# EAGLE library part PIC18F27J53 (library xess)
Microchip PIC18F27J53 Microchip PIC18F27J53
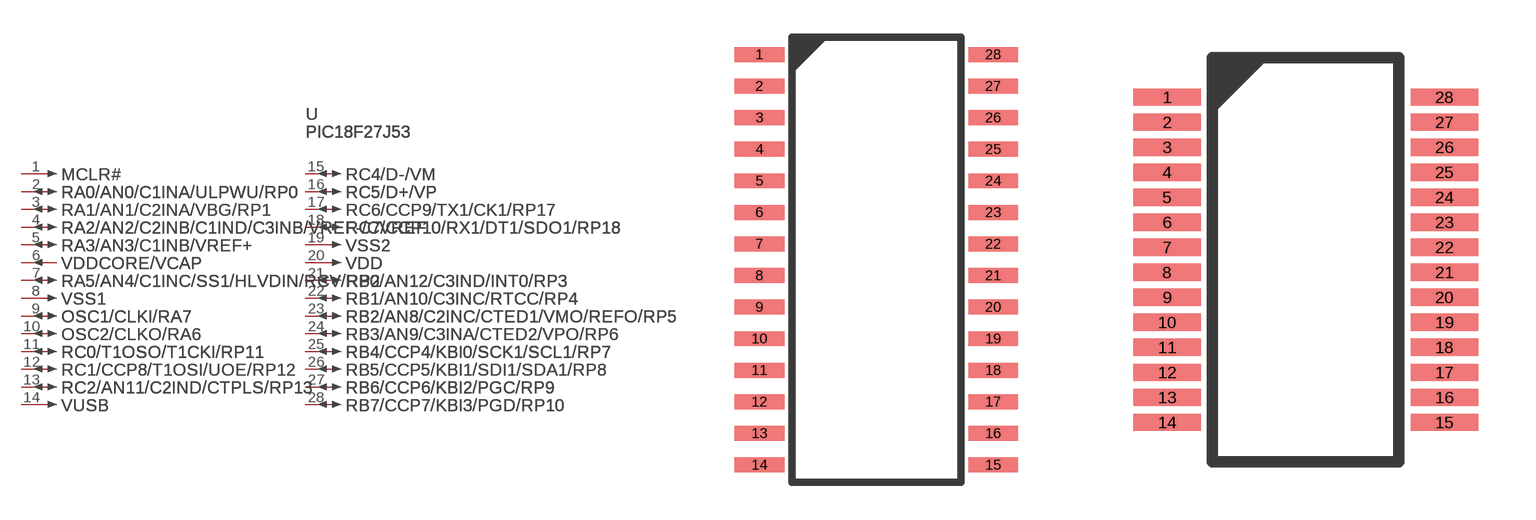
[diagram p151: symbol with the pads of MICROCHIP-28_SOIC; footprints MICROCHIP-28_SOIC, MICROCHIP-28_SSOP]

Designator prefix U; gates PART=PV_GATE MCLR#=PIN_GATE_IN RA0/AN0/C1INA/ULPWU/RP0=PIN_GATE_IO RA1/AN1/C2INA/VBG/RP1=PIN_GATE_IO RA2/AN2/C2INB/C1IND/C3INB/VREF-/CVREF=PIN_GATE_IO RA3/AN3/C1INB/VREF+=PIN_GATE_IO VDDCORE/VCAP=PIN_GATE_OUT RA5/AN4/C1INC/SS1/HLVDIN/RCV/RP2=PIN_GATE_IO VSS1=PIN_GATE_IN OSC1/CLKI/RA7=PIN_GATE_IO OSC2/CLKO/RA6=PIN_GATE_IO RC0/T1OSO/T1CKI/RP11=PIN_GATE_IO RC1/CCP8/T1OSI/UOE/RP12=PIN_GATE_IO RC2/AN11/C2IND/CTPLS/RP13=PIN_GATE_IO VUSB=PIN_GATE_IN RC4/D-/VM=PIN_GATE_IO RC5/D+/VP=PIN_GATE_IO RC6/CCP9/TX1/CK1/RP17=PIN_GATE_IO RC7/CCP10/RX1/DT1/SDO1/RP18=PIN_GATE_IO VSS2=PIN_GATE_IN VDD=PIN_GATE_IN RB0/AN12/C3IND/INT0/RP3=PIN_GATE_IO RB1/AN10/C3INC/RTCC/RP4=PIN_GATE_IO RB2/AN8/C2INC/CTED1/VMO/REFO/RP5=PIN_GATE_IO RB3/AN9/C3INA/CTED2/VPO/RP6=PIN_GATE_IO RB4/CCP4/KBI0/SCK1/SCL1/RP7=PIN_GATE_IO RB5/CCP5/KBI1/SDI1/SDA1/RP8=PIN_GATE_IO RB6/CCP6/KBI2/PGC/RP9=PIN_GATE_IO RB7/CCP7/KBI3/PGD/RP10=PIN_GATE_IO

## PIC18F27J53SOIC28  [MICROCHIP-28_SOIC]
1  MCLR#:1  in
2  RA0/AN0/C1INA/ULPWU/RP0:1
3  RA1/AN1/C2INA/VBG/RP1:1
4  RA2/AN2/C2INB/C1IND/C3INB/VREF-/CVREF:1
5  RA3/AN3/C1INB/VREF+:1
6  VDDCORE/VCAP:1  out
7  RA5/AN4/C1INC/SS1/HLVDIN/RCV/RP2:1
8  VSS1:1  in
9  OSC1/CLKI/RA7:1
10  OSC2/CLKO/RA6:1
11  RC0/T1OSO/T1CKI/RP11:1
12  RC1/CCP8/T1OSI/UOE/RP12:1
13  RC2/AN11/C2IND/CTPLS/RP13:1
14  VUSB:1  in
15  RC4/D-/VM:1
16  RC5/D+/VP:1
17  RC6/CCP9/TX1/CK1/RP17:1
18  RC7/CCP10/RX1/DT1/SDO1/RP18:1
19  VSS2:1  in
20  VDD:1  in
21  RB0/AN12/C3IND/INT0/RP3:1
22  RB1/AN10/C3INC/RTCC/RP4:1
23  RB2/AN8/C2INC/CTED1/VMO/REFO/RP5:1
24  RB3/AN9/C3INA/CTED2/VPO/RP6:1
25  RB4/CCP4/KBI0/SCK1/SCL1/RP7:1
26  RB5/CCP5/KBI1/SDI1/SDA1/RP8:1
27  RB6/CCP6/KBI2/PGC/RP9:1
28  RB7/CCP7/KBI3/PGD/RP10:1

## PIC18F27J53TSSOP28  [MICROCHIP-28_SSOP]
Pads as for MICROCHIP-28_SOIC

## Footprint MICROCHIP-28_SOIC (pad centres in mm)
Microchip 28-lead SOIC
smd 2 x 0.6: 1 -0.5,0; 2 -0.5,-1.27; 3 -0.5,-2.54; 4 -0.5,-3.81; 5 -0.5,-5.08; 6 -0.5,-6.35; 7 -0.5,-7.62; 8 -0.5,-8.89; 9 -0.5,-10.16; 10 -0.5,-11.43; 11 -0.5,-12.7; 12 -0.5,-13.97; 13 -0.5,-15.24; 14 -0.5,-16.51; 15 8.9,-16.51; 16 8.9,-15.24; 17 8.9,-13.97; 18 8.9,-12.7; 19 8.9,-11.43; 20 8.9,-10.16; 21 8.9,-8.89; 22 8.9,-7.62; 23 8.9,-6.35; 24 8.9,-5.08; 25 8.9,-3.81; 26 8.9,-2.54; 27 8.9,-1.27; 28 8.9,0

## Footprint MICROCHIP-28_SSOP (pad centres in mm)
Microchip 28-lead SSOP
smd 1.75 x 0.45: 1 -0.438,0; 2 -0.438,-0.65; 3 -0.438,-1.3; 4 -0.438,-1.95; 5 -0.438,-2.6; 6 -0.438,-3.25; 7 -0.438,-3.9; 8 -0.438,-4.55; 9 -0.438,-5.2; 10 -0.438,-5.85; 11 -0.438,-6.5; 12 -0.438,-7.15; 13 -0.438,-7.8; 14 -0.438,-8.45; 15 6.763,-8.45; 16 6.763,-7.8; 17 6.763,-7.15; 18 6.763,-6.5; 19 6.763,-5.85; 20 6.763,-5.2; 21 6.763,-4.55; 22 6.763,-3.9; 23 6.763,-3.25; 24 6.763,-2.6; 25 6.763,-1.95; 26 6.763,-1.3; 27 6.763,-0.65; 28 6.763,0